# EAGLE library part IRS2334S (library untitled)
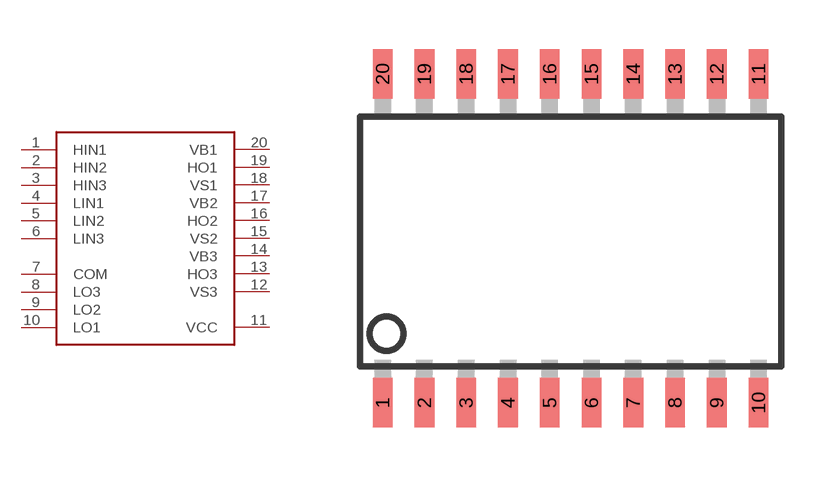
[diagram p31: symbol with the pads of SOIC20; footprint SOIC20]

Designator prefix -

## IRS2334S  [SOIC20]
1  HIN1
2  HIN2
3  HIN3
4  LIN1
5  LIN2
6  LIN3
7  COM
8  LO3
9  LO2
10  LO1
11  VCC
12  VS3
13  HO3
14  VB3
15  VS2
16  HO2
17  VB2
18  VS1
19  HO1
20  VB1

## Footprint SOIC20 (pad centres in mm)
smd 0.6 x 1.5: 1 -5.715,-5; 2 -4.445,-5; 3 -3.175,-5; 4 -1.905,-5; 5 -0.635,-5; 6 0.635,-5; 7 1.905,-5; 8 3.175,-5; 9 4.445,-5; 10 5.715,-5; 11 5.715,5; 12 4.445,5; 13 3.175,5; 14 1.905,5; 15 0.635,5; 16 -0.635,5; 17 -1.905,5; 18 -3.175,5; 19 -4.445,5; 20 -5.715,5